# EAGLE library part NRF51822-QFAA-T (library IC)
IC RF TXRX+MCU BLUETOOTH 48VFQFN Manufacturer's datasheet <https://www.nordicsemi.com/-/media/DocLib/Other/Product_Spec/nRF51822PSv33.pdf>
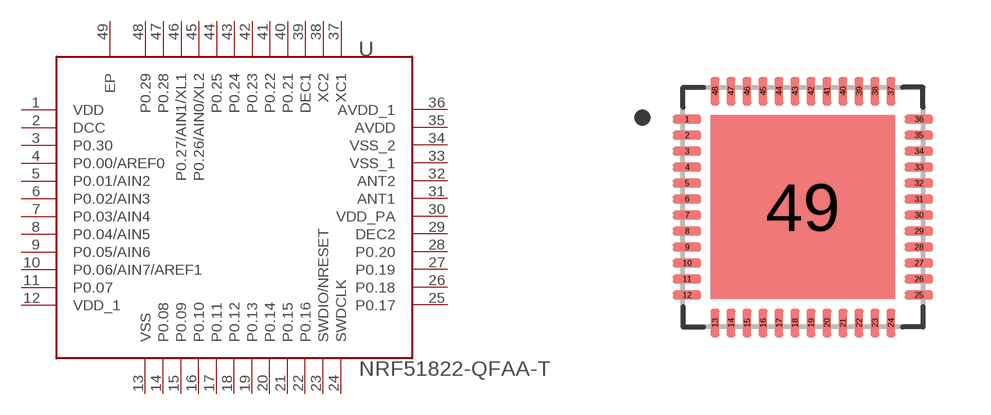
[diagram p15: symbol with the pads of QFN-48(6X6); footprint QFN-48(6X6)]

Designator prefix U

## NRF51822-QFAA-T (CREATED_BY: PCBLayout.com; DIGI-KEY_PART: 1490-1024-ND; MANUFACTURER: Nordic Semiconductor ASA; MPN: NRF51822-QFAA-T; PACKAGE: VFQFN-48)  [QFN-48(6X6)]
1  VDD  pwr
2  DCC  pwr
3  P0.30
4  P0.00/AREF0  pas
5  P0.01/AIN2  pas
6  P0.02/AIN3  pas
7  P0.03/AIN4  pas
8  P0.04/AIN5  pas
9  P0.05/AIN6  pas
10  P0.06/AIN7/AREF1  pas
11  P0.07
12  VDD_1  pwr
13  VSS  pwr
14  P0.08
15  P0.09
16  P0.10
17  P0.11
18  P0.12
19  P0.13
20  P0.14
21  P0.15
22  P0.16
23  SWDIO/NRESET
24  SWDCLK
25  P0.17
26  P0.18
27  P0.19
28  P0.20
29  DEC2  pwr
30  VDD_PA  pwr
31  ANT1  pas
32  ANT2  pas
33  VSS_1  pwr
34  VSS_2  pwr
35  AVDD  pwr
36  AVDD_1  pwr
37  XC1  in
38  XC2  out
39  DEC1  pwr
40  P0.21
41  P0.22
42  P0.23
43  P0.24
44  P0.25
45  P0.26/AIN0/XL2  pas
46  P0.27/AIN1/XL1  pas
47  P0.28
48  P0.29
49  EP  pwr

## Footprint QFN-48(6X6) (pad centres in mm)
Quad Flat No-Lead (QFN with Tab), 0.40 mm pitch; square, 12 pin X 12 pin, 6.00 mm L X 6.00 mm W X 0.90 mm H body PCB Libraries Packages
smd 0.71 x 0.22: 1 -2.9,2.2; 2 -2.9,1.8; 3 -2.9,1.4; 4 -2.9,1; 5 -2.9,0.6; 6 -2.9,0.2; 7 -2.9,-0.2; 8 -2.9,-0.6; 9 -2.9,-1; 10 -2.9,-1.4; 11 -2.9,-1.8; 12 -2.9,-2.2; 25 2.9,-2.2; 26 2.9,-1.8; 27 2.9,-1.4; 28 2.9,-1; 29 2.9,-0.6; 30 2.9,-0.2; 31 2.9,0.2; 32 2.9,0.6; 33 2.9,1; 34 2.9,1.4; 35 2.9,1.8; 36 2.9,2.2
smd 0.22 x 0.71: 13 -2.2,-2.9; 14 -1.8,-2.9; 15 -1.4,-2.9; 16 -1,-2.9; 17 -0.6,-2.9; 18 -0.2,-2.9; 19 0.2,-2.9; 20 0.6,-2.9; 21 1,-2.9; 22 1.4,-2.9; 23 1.8,-2.9; 24 2.2,-2.9; 37 2.2,2.9; 38 1.8,2.9; 39 1.4,2.9; 40 1,2.9; 41 0.6,2.9; 42 0.2,2.9; 43 -0.2,2.9; 44 -0.6,2.9; 45 -1,2.9; 46 -1.4,2.9; 47 -1.8,2.9; 48 -2.2,2.9
smd 4.6 x 4.6: 49 0,0